# EAGLE library part 615032137921 (library InputOutputIO (rev18a))
WR-MJ Horizontal Shielded Ganged 4 Ports with LED & EMI Panel Finger 8P8C Modular Jack Tab Up, 32 Pins=>Code : Con_I-O_MJ-H_Shielded_Up_615032137921 <http://katalog.we-online.de/media/images/eican/Con_I-O_MJ-H_Shielded_Up_615032137921_pf2.jpg> Details see: http://katalog.we-online.de/en/em/MJ_HORIZONTAL_SHIELDED_GANGED_4_PORTS_W_LED_AND_EMI_PANEL_FINGER_8P8C_TAB_UP Created 2014-07-10, Karrer Zheng 2014 (C) Würth Elektronik
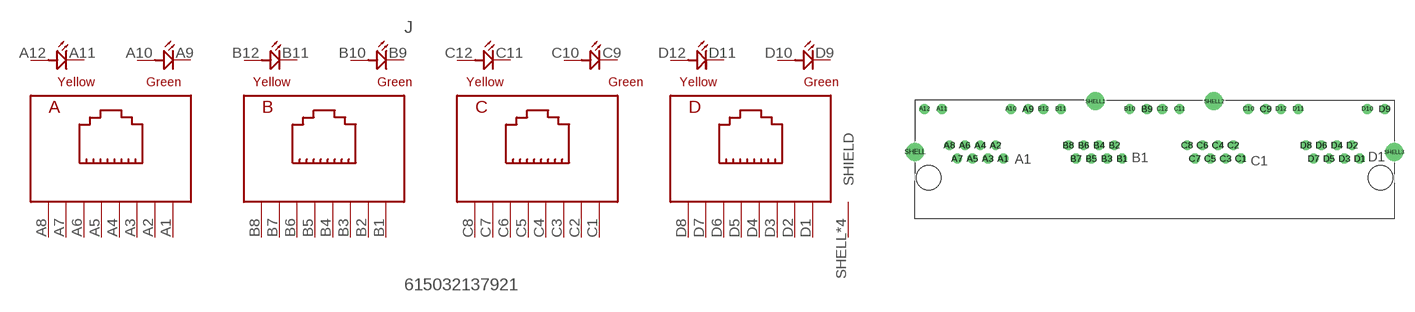
[diagram p131: symbol with the pads of 615032137921; footprint 615032137921]

Designator prefix J

## 615032137921  [615032137921]
A1  A1  pas
A2  A2  pas
A3  A3  pas
A4  A4  pas
A5  A5  pas
A6  A6  pas
A7  A7  pas
A8  A8  pas
A9  A10  pas
A10  A9  pas
A11  A12  pas
A12  A11  pas
B1  B1  pas
B2  B2  pas
B3  B3  pas
B4  B4  pas
B5  B5  pas
B6  B6  pas
B7  B7  pas
B8  B8  pas
B9  B10  pas
B10  B9  pas
B11  B12  pas
B12  B11  pas
C1  C1  pas
C2  C2  pas
C3  C3  pas
C4  C4  pas
C5  C5  pas
C6  C6  pas
C7  C7  pas
C8  C8  pas
C9  C10  pas
C10  C9  pas
C11  C12  pas
C12  C11  pas
D1  D1  pas
D2  D2  pas
D3  D3  pas
D4  D4  pas
D5  D5  pas
D6  D6  pas
D7  D7  pas
D8  D8  pas
D9  D10  pas
D10  D9  pas
D11  D12  pas
D12  D11  pas
SHELL  SHIELD  pas
SHELL1  SHIELD  pas
SHELL2  SHIELD  pas
SHELL3  SHIELD  pas

## Footprint 615032137921 (pad centres in mm)
WR-MJ Horizontal Shielded Ganged 4 Ports with LED & EMI Panel Finger 8P8C Modular Jack Tab Up, 32 Pins
drill 0.8: A1 -20.055,2.54; A2 -21.075,4.32; A3 -22.095,2.54; A4 -23.115,4.32; A5 -24.135,2.54; A6 -25.155,4.32; A7 -26.175,2.54; A8 -27.195,4.32; A9 -16.765,9.14; A10 -19.055,9.14; A11 -28.195,9.14; A12 -30.485,9.14; B1 -4.305,2.54; B2 -5.325,4.32; B3 -6.345,2.54; B4 -7.365,4.32; B5 -8.385,2.54; B6 -9.405,4.32; B7 -10.425,2.54; B8 -11.445,4.32; B9 -1.015,9.14; B10 -3.315,9.14; B11 -12.435,9.14; B12 -14.735,9.14; C1 11.445,2.54; C2 10.425,4.32; C3 9.405,2.54; C4 8.385,4.32; C5 7.365,2.54; C6 6.345,4.32; C7 5.325,2.54; C8 4.305,4.32; C9 14.735,9.14; C10 12.435,9.14; C11 3.315,9.14; C12 1.015,9.14; D1 27.195,2.54; D2 26.175,4.32; D3 25.155,2.54; D4 24.135,4.32; D5 23.115,2.54; D6 22.095,4.32; D7 21.075,2.54; D8 20.055,4.32; D9 30.485,9.14; D10 28.195,9.14; D11 19.055,9.14; D12 16.765,9.14
drill 1.6: SHELL -31.75,3.43; SHELL1 -7.875,10.16; SHELL2 7.875,10.16; SHELL3 31.75,3.43
hole 3.25 at -29.975,0
hole 3.25 at 29.975,0